# Altium footprint library Key.PcbLib: 1 footprints
Each footprint in its own frame and in the unit in brackets; x right, y up, seen from the top. Pads: shape width x height; smd on the part's side, far side on the other; paste and mask are expansions set on the pad; w line width, h text height; cw(c..) or ccw(c..) is an arc to the next point about the centre after c.
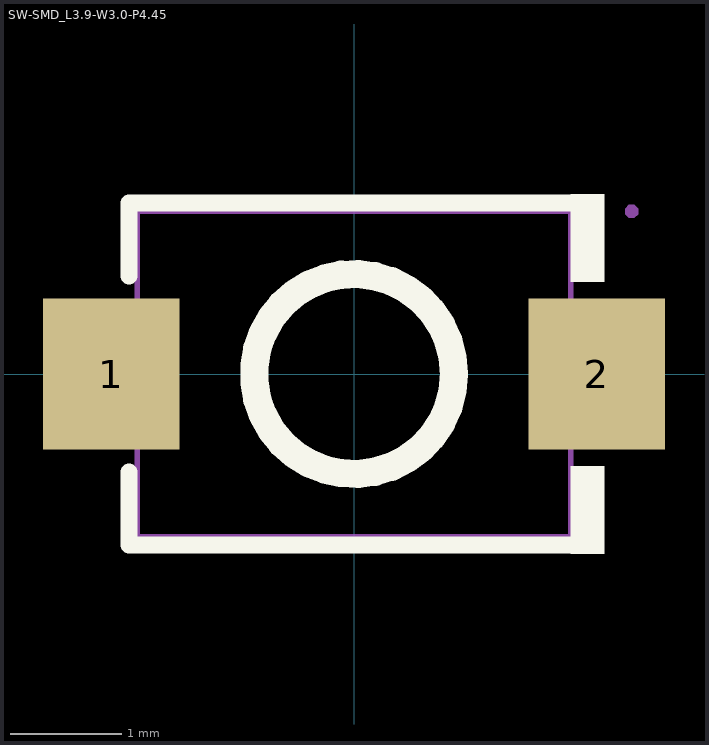
[diagram p0: the footprint, top view; thin cyan lines are the x and y axes]

## SW-SMD_L3.9-W3.0-P4.45 [mm]
pads (2):
  rect 1.23x1.36 smd paste+0 mask+0.051: 1(-2.185,0) 2(2.185,0)
Top Overlay:
  circle w0.254: c0,0 r0.9
  region: 1.95,-1.617 1.95,-0.832 2.255,-0.832 2.255,-1.617
  region: 1.95,1.617 1.95,0.832 2.255,0.832 2.255,1.617
  lines w0.152: -2.026,-0.883 -2.026,-1.541 2.026,-1.541 ; -2.026,0.883 -2.026,1.541 2.026,1.541
Mechanical 15:
  region: 2.5,1.405 2.525,1.405 2.56,1.44 2.56,1.49 2.525,1.525 2.5,1.525 2.475,1.525 2.44,1.49 2.44,1.44 2.475,1.405 2.5,1.405
  region: 2.5,0.65 2.5,-0.65 1.6,-0.65 1.6,0.65
  region: -2.5,0.65 -2.5,-0.65 -1.6,-0.65 -1.6,0.65
  lines w0.051: -1.95,-1.465 1.95,-1.465 1.95,1.465 -1.95,1.465 -1.95,-1.465